# Altium footprint library Walkline-IoT.PcbLib: 2 footprints
Each footprint in its own frame and in the unit in brackets; x right, y up, seen from the top. Pads: shape width x height; smd on the part's side, far side on the other; paste and mask are expansions set on the pad; w line width, h text height; cw(c..) or ccw(c..) is an arc to the next point about the centre after c.
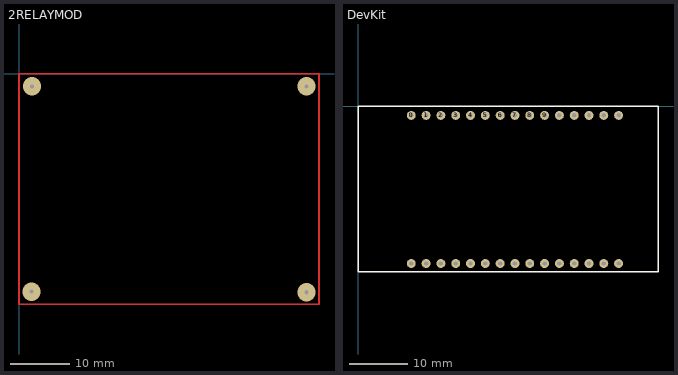
[diagram p0: the footprints below, top view; thin cyan lines are the x and y axes]

## 2RELAYMOD [mil]
via 82.68,-1444.88 diameter 122.05 hole 28
via 1909.45,-1448.82 diameter 122.05 hole 28
via 1909.45,-82.68 diameter 122.05 hole 28
via 86.61,-82.68 diameter 122.05 hole 28
Top Layer:
  region: 1700,0
  lines w10: 1968.5,0 1984.25,0 ; 0,-1527.56 0,0 1992.13,0 1992.13,-1527.56 0,-1527.56

## DevKit [mil]
pads (30):
  round 60 hole 30: 0(359.72,-60.83) 1(459.72,-60.83) 2(559.72,-60.83) 3(659.72,-60.83) 4(759.72,-60.83) 5(859.72,-60.83) 6(959.72,-60.83) 7(1059.72,-60.83) 8(1159.72,-60.83) 9(1259.72,-60.83) 10(1359.72,-60.83) 11(1459.72,-60.83) 12(1559.72,-60.83) 13(1659.72,-60.83) 14(1759.72,-60.83) 15(359.72,-1060.83) 16(459.72,-1060.83) 17(559.72,-1060.83) 18(659.72,-1060.83) 19(759.72,-1060.83) 20(859.72,-1060.83) 21(959.72,-1060.83) 22(1059.72,-1060.83) 23(1159.72,-1060.83) 24(1259.72,-1060.83) 25(1359.72,-1060.83) 26(1459.72,-1060.83) 27(1559.72,-1060.83) 28(1659.72,-1060.83) 29(1759.72,-1060.83)
Top Overlay:
  lines w10: 0,-1115.35 2025.59,-1115.35 2025.59,0 0,0 0,-1115.35